# EAGLE library part CONN_FFC_1X10_SHX2 (library GPLIB_CONN)
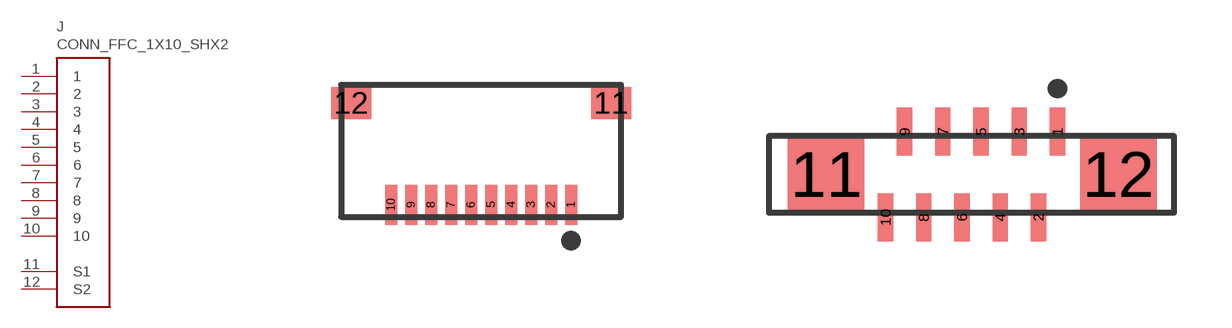
[diagram p50: symbol with the pads of CONN_FFC_1X10_0.5MM_SM_RA_HC-FPC-05-09-10RLTAG; footprints CONN_FFC_1X10_0.5MM_SM_RA_HC-FPC-05-09-10RLTAG, CONN_FFC_1X10_0.5MM_SM_ST_HC-FPC-05-LT-10RLTAG]

Designator prefix J

## CONN_FFC_1X10_SHX2_0.5MM_SM_RA_HC-FPC-05-09-10RLTAG  [CONN_FFC_1X10_0.5MM_SM_RA_HC-FPC-05-09-10RLTAG]
1  1  pas
2  2  pas
3  3  pas
4  4  pas
5  5  pas
6  6  pas
7  7  pas
8  8  pas
9  9  pas
10  10  pas
11  S1  pas
12  S2  pas

## CONN_FFC_1X10_SHX2_0.5MM_SM_ST_HC-FPC-05-LT-10RLTAG  [CONN_FFC_1X10_0.5MM_SM_ST_HC-FPC-05-LT-10RLTAG]
Pads as for CONN_FFC_1X10_0.5MM_SM_RA_HC-FPC-05-09-10RLTAG

## Footprint CONN_FFC_1X10_0.5MM_SM_RA_HC-FPC-05-09-10RLTAG (pad centres in mm)
smd 0.3 x 1: 1 2.25,-1.4; 2 1.75,-1.4; 3 1.25,-1.4; 4 0.75,-1.4; 5 0.25,-1.4; 6 -0.25,-1.4; 7 -0.75,-1.4; 8 -1.25,-1.4; 9 -1.75,-1.4; 10 -2.25,-1.4
smd 1 x 0.8: 11 3.25,1.15; 12 -3.25,1.15

## Footprint CONN_FFC_1X10_0.5MM_SM_ST_HC-FPC-05-LT-10RLTAG (pad centres in mm)
smd 0.4 x 1.25: 1 2.25,1.125; 2 1.75,-1.125; 3 1.25,1.125; 4 0.75,-1.125; 5 0.25,1.125; 6 -0.25,-1.125; 7 -0.75,1.125; 8 -1.25,-1.125; 9 -1.75,1.125; 10 -2.25,-1.125
smd 2 x 2: 11 -3.8,0; 12 3.84,0